# Altium schematic symbol library BM06B-SRSS-TB_LF__SN_ (1).SCHLIB: 1 symbol
Pins are listed as number, name and electrical type; pins without a type are passive.

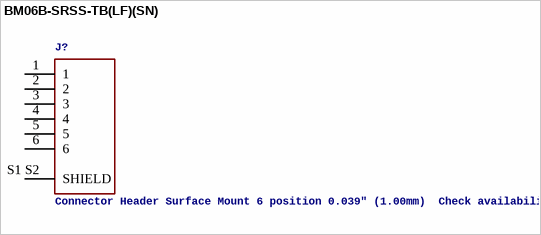
[diagram p0: symbol BM06B-SRSS-TB(LF)(SN)]

## BM06B-SRSS-TB(LF)(SN)
designator J?, comment Connector Header Surface Mount 6 position 0.039" (1.00mm)  Check availability
GateName_1: G$1; SymbolName_1: BM06B-SRSS-TB(LF)(SN); Description: Connector Header Surface Mount 6 position 0.039 (1.00mm); MF: JST Sales; LibraryName: BM06B-SRSS-TB_LF__SN_ (1); DeviceSetName: BM06B-SRSS-TB(LF)(SN); Availability: In Stock; Package: None; MP: BM06B-SRSS-TB(LF)(SN); Price: None
footprint JST_BM06B-SRSS-TB(LF)(SN)
pins: 1, 2, 3, 4, 5, 6, S1 S2 SHIELD